# Altium footprint library 三极管.PcbLib: 26 footprints (part 1 of 2)
Each footprint in its own frame and in the unit in brackets; x right, y up, seen from the top. Pads: shape width x height; smd on the part's side, far side on the other; paste and mask are expansions set on the pad; w line width, h text height; cw(c..) or ccw(c..) is an arc to the next point about the centre after c.
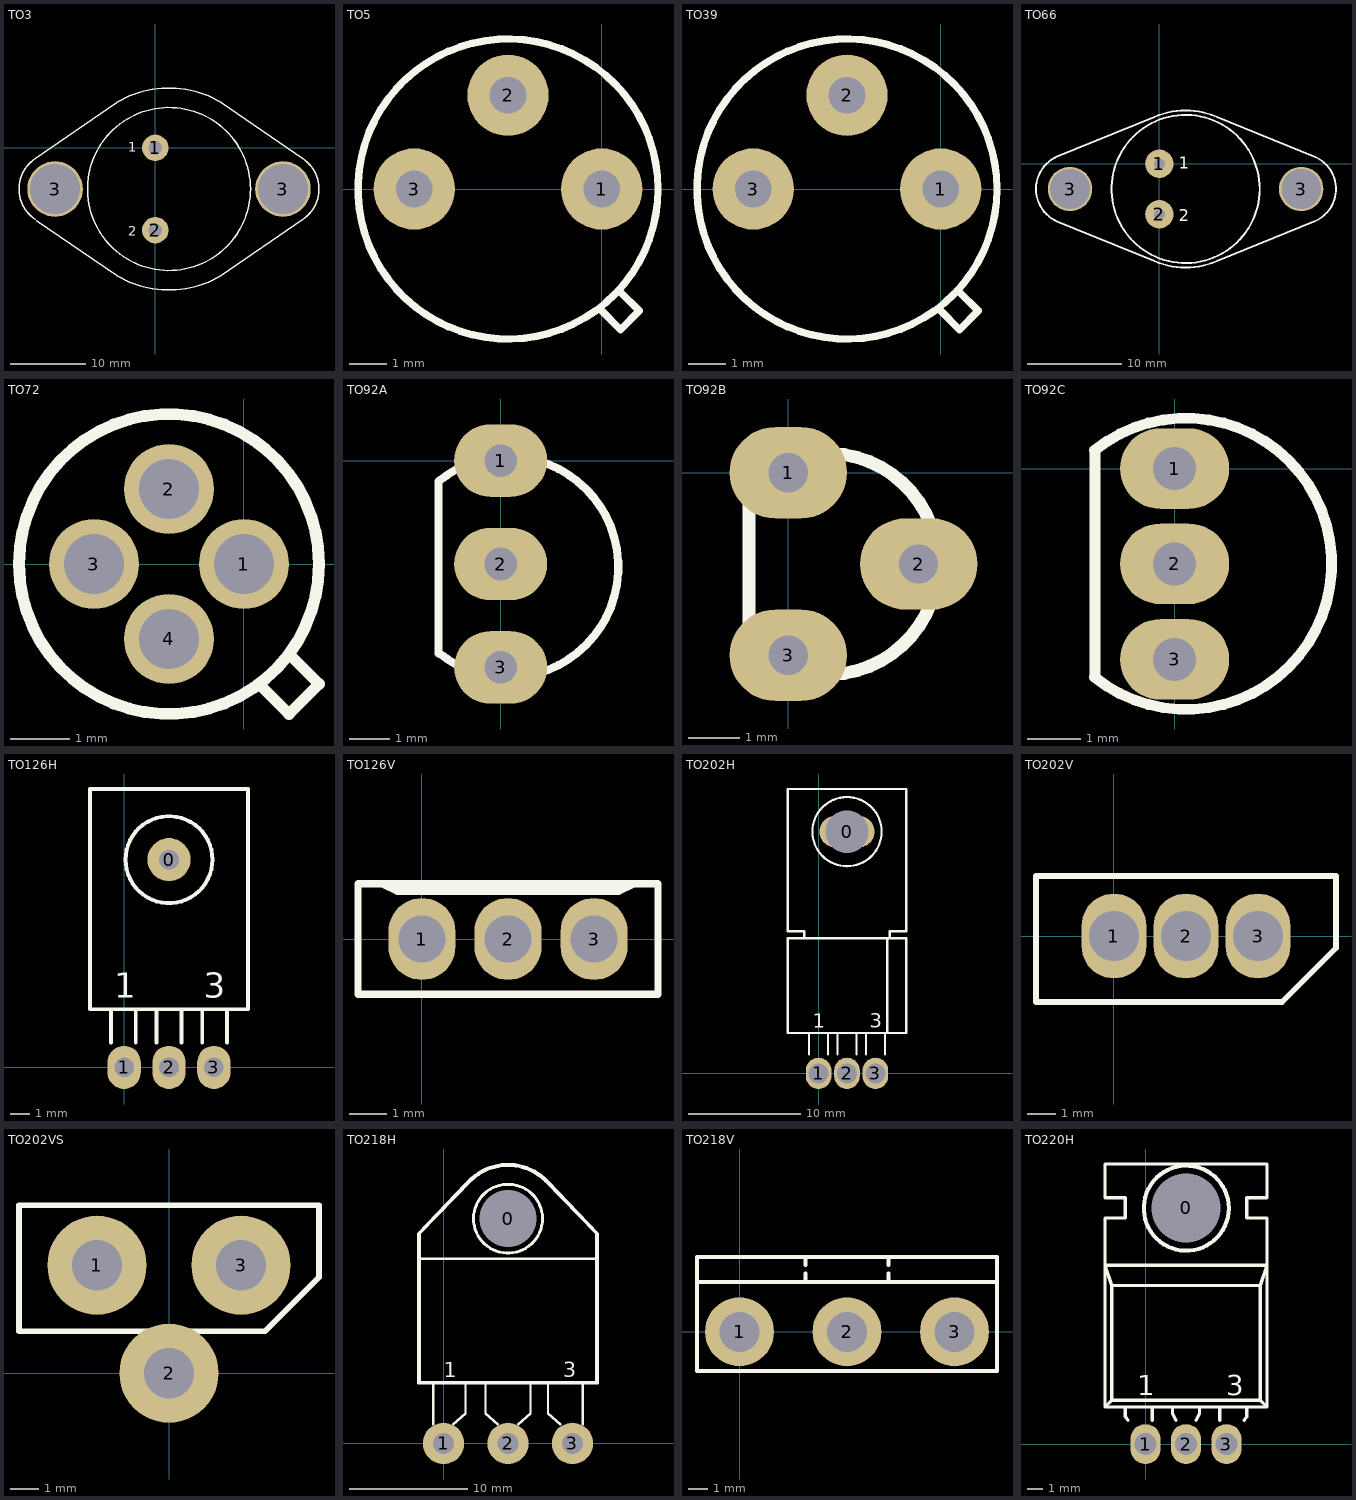
[diagram p0: the footprints below, top view; thin cyan lines are the x and y axes]

## TO3 [mil]
pads (4):
  round 137.79 hole 70: 1(0,0) 2(0,-430)
  round 290 hole 262: 3(-523.5,-215) 3(666.5,-215)
TopOverlay:
  circle w7.87: c71.5,-215 r425.69
  lines w7.87: -628.5,-56.67 -203.5,235 ; -627.34,-373.9 cw(c-520.17,-215) -627.34,-56.1 ; -620.17,-381.67 -203.5,-665 ; -200.18,-667.16 ccw(c71.5,-215) 343.18,-667.16 ; -200.18,237.16 cw(c71.5,-215) 343.18,237.16 ; 346.5,-665 771.5,-373.33 ; 346.5,235 771.5,-56.67 ; 770.34,-373.9 ccw(c663.17,-215) 770.34,-56.1
  text "1" at -140,-20 h50
  text "2" at -140,-460 h50

## TO5 [mm]
pads (3):
  round 2.2 hole 1: 1(0,0) 2(-2.54,2.54) 3(-5.08,0)
TopOverlay:
  circle w0.2: c-2.54,0 r4.064
  lines w0.2: 0,-3.302 0.508,-3.81 1.016,-3.302 0.508,-2.794

## TO39 [mm]
pads (3):
  round 2.2 hole 1: 1(0,0) 2(-2.54,2.54) 3(-5.08,0)
TopOverlay:
  circle w0.2: c-2.54,0 r4.064
  lines w0.2: 0,-3.302 0.508,-3.81 1.016,-3.302 0.508,-2.794

## TO66 [mil]
pads (4):
  round 118.11 hole 45: 1(0,0) 2(0,-210)
  round 185 hole 165: 3(-372,-105) 3(590,-105)
TopOverlay:
  circle w7.87: c109,-105 r308.33
  lines w7.87: -426,-240 -21,-405 ; -425.99,-239.75 cw(c-366,-105) -425.99,29.75 ; -426,30 -21,195 ; -18.64,-405.7 ccw(c109,-105) 236.64,-405.7 ; -18.64,195.7 cw(c109,-105) 236.64,195.7 ; 239,-405 644,-240 ; 239,195 644,30 ; 643.63,-240.21 ccw(c589,-105) 643.63,30.21
  text "2" at 80,-240 h50
  text "1" at 80,-20 h50

## TO72 [mil]
pads (4):
  round 60 hole 40: 1(0,0) 2(-50,50) 3(-100,0) 4(-50,-50)
TopOverlay:
  circle w7.87: c-50,0 r100
  lines w7.87: 10,-80 30,-100 50,-80 30,-60

## TO92A [mil]
pads (3):
  oval 90x70 hole 31.5: 1(0,0) 2(0,-100) 3(0,-200)
TopOverlay:
  lines w7.87: -60,-186.67 -60,-20 cw(c7.13,-102.89) -60,-185.79

## TO92B [mil]
pads (3):
  oval 90x70 hole 30: 1(0,0) 2(100,-70) 3(0,-140)
TopOverlay:
  lines w10: -30,-130 ccw(c30,-70) -30,-10 -30,-28.02 -30,-130

## TO92C [mm]
pads (3):
  oval 2.032x1.5 hole 0.8: 1(0,0) 2(0,-1.77) 3(0,-3.548)
TopOverlay:
  lines w0.2: -1.493,-3.876 ccw(c0.212,-1.77) -1.493,0.336 ; -1.482,-3.887 -1.482,0.347

## TO126H [mm]
pads (4):
  round 2.2 hole 1: 0(2.286,10.583)
  oval 1.7x2.2 hole 1: 1(0,0) 2(2.286,0) 3(4.572,0)
TopOverlay:
  circle w0.2: c2.286,10.583 r2.214
  lines w0.2: -0.677,1.27 -0.677,2.963 ; 0.593,1.27 0.593,2.963 ; 1.651,1.27 1.651,2.963 ; 2.921,1.27 2.921,2.963 ; 3.979,1.27 3.979,2.963 ; 5.249,1.27 5.249,2.963 ; -0.677,2.963 6.308,2.963 6.308,14.182 -1.736,14.182 -1.736,2.963 -0.677,2.963
  text "1" at -0.508,3.556 h1.27
  text "3" at 4.064,3.556 h1.27

## TO126V [mm]
pads (3):
  oval 1.8x2.2 hole 1.27: 1(0,0) 2(2.307,0) 3(4.614,0)
TopOverlay:
  lines w0.2: -1.079,1.482 -0.656,1.282 5.27,1.282 5.694,1.482 ; -1.714,-1.482 -1.714,1.482 6.329,1.482 6.329,-1.482 -1.714,-1.482

## TO202H [mil]
pads (4):
  oval 195x110.24 hole 150: 0(100,850)
  oval 90x110.24 hole 70: 1(0,0) 2(100,0) 3(200,0)
TopOverlay:
  circle w7.87: c100,850 r121.66
  lines w7.87: -50,475 -50,500 -108.33,500 -108.33,1000 308.33,1000 308.33,500 250,500 250,475 ; -33.33,66.93 -33.33,141.67 ; 33.33,66.93 33.33,141.67 ; 66.67,66.93 66.67,141.67 ; 133.33,66.93 133.33,141.67 ; 166.67,66.93 166.67,141.67 ; 233.33,66.93 233.33,141.67 ; 241.67,141.67 241.67,475 ; -108.33,141.67 -108.33,475 308.33,475 308.33,141.67 -108.33,141.67
  text "1" at -20,160 h50
  text "3" at 180,160 h50

## TO202V [mil]
pads (3):
  oval 90x118.11 hole 70: 1(0,0) 2(100,0) 3(200,0)
TopOverlay:
  lines w7.87: -108.33,-91.67 -108.33,83.33 308.33,83.33 308.33,-16.67 233.33,-91.67 -108.33,-91.67

## TO202VS [mm]
pads (3):
  round 3.5 hole 1.778: 1(-2.54,3.81) 2(0,0) 3(2.54,3.81)
TopOverlay:
  lines w0.2: -5.292,1.482 -0.71,1.482 ; 0.71,1.482 3.387,1.482
  lines w0.203: -5.292,1.482 -5.292,5.927 5.292,5.927 5.292,3.387 3.387,1.482

## TO218H [mm]
pads (4):
  round 3.5 hole 4.826: 0(5.461,19.05)
  round 3.5 hole 1.778: 1(0,0) 2(5.461,0) 3(10.922,0)
TopOverlay:
  circle w0.254: c5.461,19.05 r2.921
  lines w0.2: -0.889,1.6 -0.889,5.08 ; 0.804,1.6 1.863,2.54 1.863,5.08 ; 1.863,22.013 -2.159,17.78 -2.159,15.663 ; 2.413,22.352 -2.032,17.78 -2.032,5.207 12.954,5.207 12.954,17.78 8.636,22.225 ; 3.556,5.08 3.556,2.54 4.614,1.6 ; 6.308,1.6 7.366,2.54 7.366,5.08 ; 8.848,5.08 8.848,2.54 9.906,1.6 ; 8.848,22.225 13.081,17.78 13.081,15.663 ; 11.811,1.6 11.811,5.08 ; -2.159,15.663 -2.159,5.08 13.081,5.08 13.081,15.663 ; -2.159,15.663 13.081,15.663
  lines w0.203: 1.859,21.967 cw(c5.461,19.05) 8.851,22.211 ; 2.401,22.332 cw(c5.461,19.05) 8.634,22.223
  text "3" at 10.16,5.588 h1.27
  text "1" at 0,5.588 h1.27

## TO218V [mm]
pads (3):
  round 3.5 hole 2.032: 1(0,0) 2(5.461,0) 3(10.922,0)
TopOverlay:
  lines w0.2: -2.159,2.54 13.081,2.54 ; 3.344,2.54 3.344,2.963 ; 3.344,3.387 3.344,3.81 ; 7.578,2.54 7.578,2.963 ; 7.578,3.387 7.578,3.81 ; -2.159,-2 -2.159,3.81 13.081,3.81 13.081,-2 -2.159,-2

## TO220H [mm]
pads (4):
  oval 1.9x2.5 hole 4.318: 0(2.54,14.817)
  oval 1.9x2.5 hole 1.397: 1(0,0) 2(2.54,0) 3(5.08,0)
TopOverlay:
  circle w0.254: c2.557,14.796 r2.667
  lines w0.2: -1.27,1.693 -1.27,2.328 ; -1.222,1.661 -1.107,1.5 ; 0.423,1.5 0.423,2.328 ; 1.693,2.328 1.693,1.905 1.905,1.5 ; 3.175,1.5 3.387,1.905 3.387,2.328 ; 4.657,1.5 4.657,2.328 ; 6.195,1.5 6.358,1.717 ; 6.35,1.693 6.35,2.328 ; -2.54,2.328 -2.54,14.182 -1.27,14.182 -1.27,15.452 -2.54,15.452 -2.54,17.568 7.62,17.568 7.62,15.452 6.35,15.452 6.35,14.182 7.62,14.182 7.62,2.328 ; -2.54,2.328 7.62,2.328 ; -2.54,2.328 -2.117,2.752 ; -2.117,2.752 -2.117,9.948 ; -2.117,2.752 7.197,2.752 ; -2.117,9.948 -2.54,11.218 7.62,11.218 7.197,9.948 ; -2.117,9.948 7.197,9.948 ; 7.197,2.752 7.197,9.948 ; 7.197,2.752 7.62,2.328
  text "3" at 5.08,3.048 h1.27
  text "1" at -0.508,3.048 h1.27